# EAGLE library part TE-2041021 (library misc)
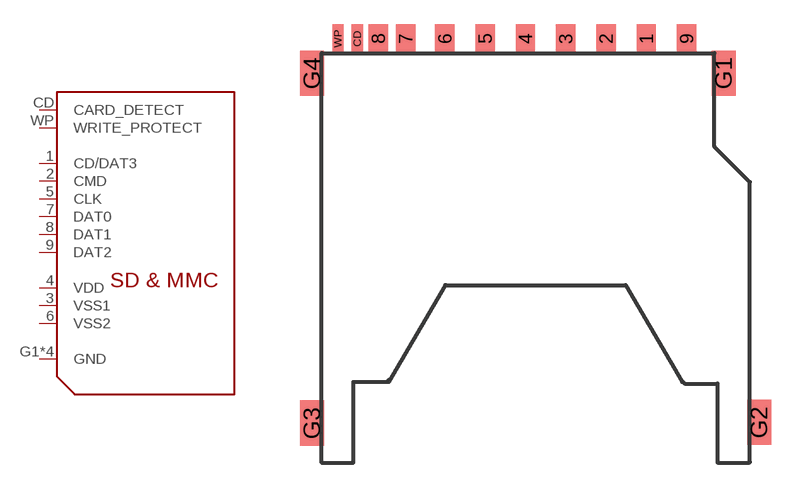
[diagram p7: symbol with the pads of 2041021; footprint 2041021]

Designator prefix X

## TE-2041021  [2041021]
1  CD/DAT3  out
2  CMD  in
3  VSS1  sup
4  VDD  sup
5  CLK  in
6  VSS2  sup
7  DAT0  in
8  DAT1
9  DAT2
CD  CARD_DETECT  pas
G1  GND  sup
G2  GND  sup
G3  GND  sup
G4  GND  sup
WP  WRITE_PROTECT  pas

## Footprint 2041021 (pad centres in mm)
smd 1.2 x 1.8: 1 7,2.8; 2 4.5,2.8; 3 2,2.8; 4 -0.5,2.8; 5 -3,2.8; 6 -5.5,2.8; 7 -7.93,2.8; 8 -9.63,2.8; 9 9.5,2.8
smd 0.7 x 1.8: CD -10.93,2.8; WP -12.13,2.8
smd 1.5 x 2.8: G1 11.809,0.666; G2 14.009,-20.984; G3 -13.741,-21.034; G4 -13.741,0.666